# EAGLE library part MINI_USB_B_SMD (library USB_Connector)
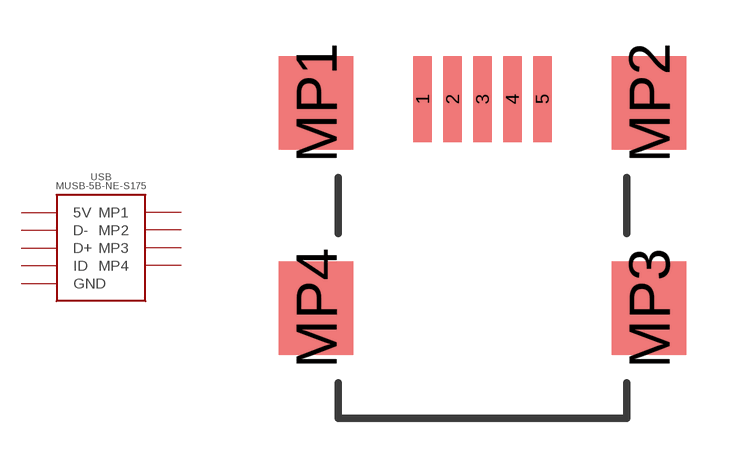
[diagram p0: symbol with the pads of MINI_USB_B_SMD; footprint MINI_USB_B_SMD]

Designator prefix USB

## MINI_USB_B_SMD  [MINI_USB_B_SMD]
1  5V
2  D-
3  D+
4  ID
5  GND
MP1  MP1
MP2  MP2
MP3  MP3
MP4  MP4

## Footprint MINI_USB_B_SMD (pad centres in mm)
smd 0.5 x 2.3: 1 -1.6,8.55; 2 -0.8,8.55; 3 0,8.55; 4 0.8,8.55; 5 1.6,8.55
smd 2 x 2.5: MP1 -4.45,8.45; MP2 4.45,8.45; MP3 4.45,2.95; MP4 -4.45,2.95